# EAGLE library part M06 (library unicorn_v2)
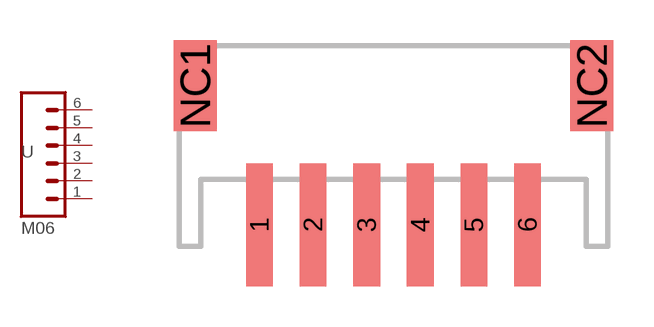
[diagram p1: symbol with the pads of S6B_PH; footprint S6B_PH]

Designator prefix -

## M06  [S6B_PH]
1  1  pas
2  2  pas
3  3  pas
4  4  pas
5  5  pas
6  6  pas

## Footprint S6B_PH (pad centres in mm)
smd 1 x 4.6: 1 -4.92,-2.7; 2 -2.92,-2.7; 3 -0.92,-2.7; 4 1.08,-2.7; 5 3.08,-2.7; 6 5.08,-2.7
smd 1.6 x 3.4: NC1 -7.32,2.5; NC2 7.48,2.5